# Altium schematic symbol library RN73R1ETTP50R0F50.SchLib: 1 symbol
Pins are listed as number, name and electrical type; pins without a type are passive.

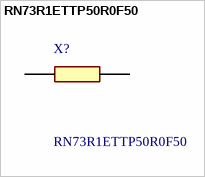
[diagram p0: symbol RN73R1ETTP50R0F50]

## RN73R1ETTP50R0F50
designator X?
123; Manufacturer_Name: KOA Speer; Geometry.Height: 0.4mm; Mouser Part Number: *; Mouser Price/Stock: *; Manufacturer_Part_Number: RN73R1ETTP50R0F50; Datasheet Link: https://media.digikey.com/pdf/Data%20Sheets/KOA%20Speer/RN73R_Type_DS.pdf
footprint RESC1005X40N
pins: 1, 2